# Altium schematic symbol library Memory_Flash.SchLib: 41 symbols
Pins are listed as number, name and electrical type; pins without a type are passive.

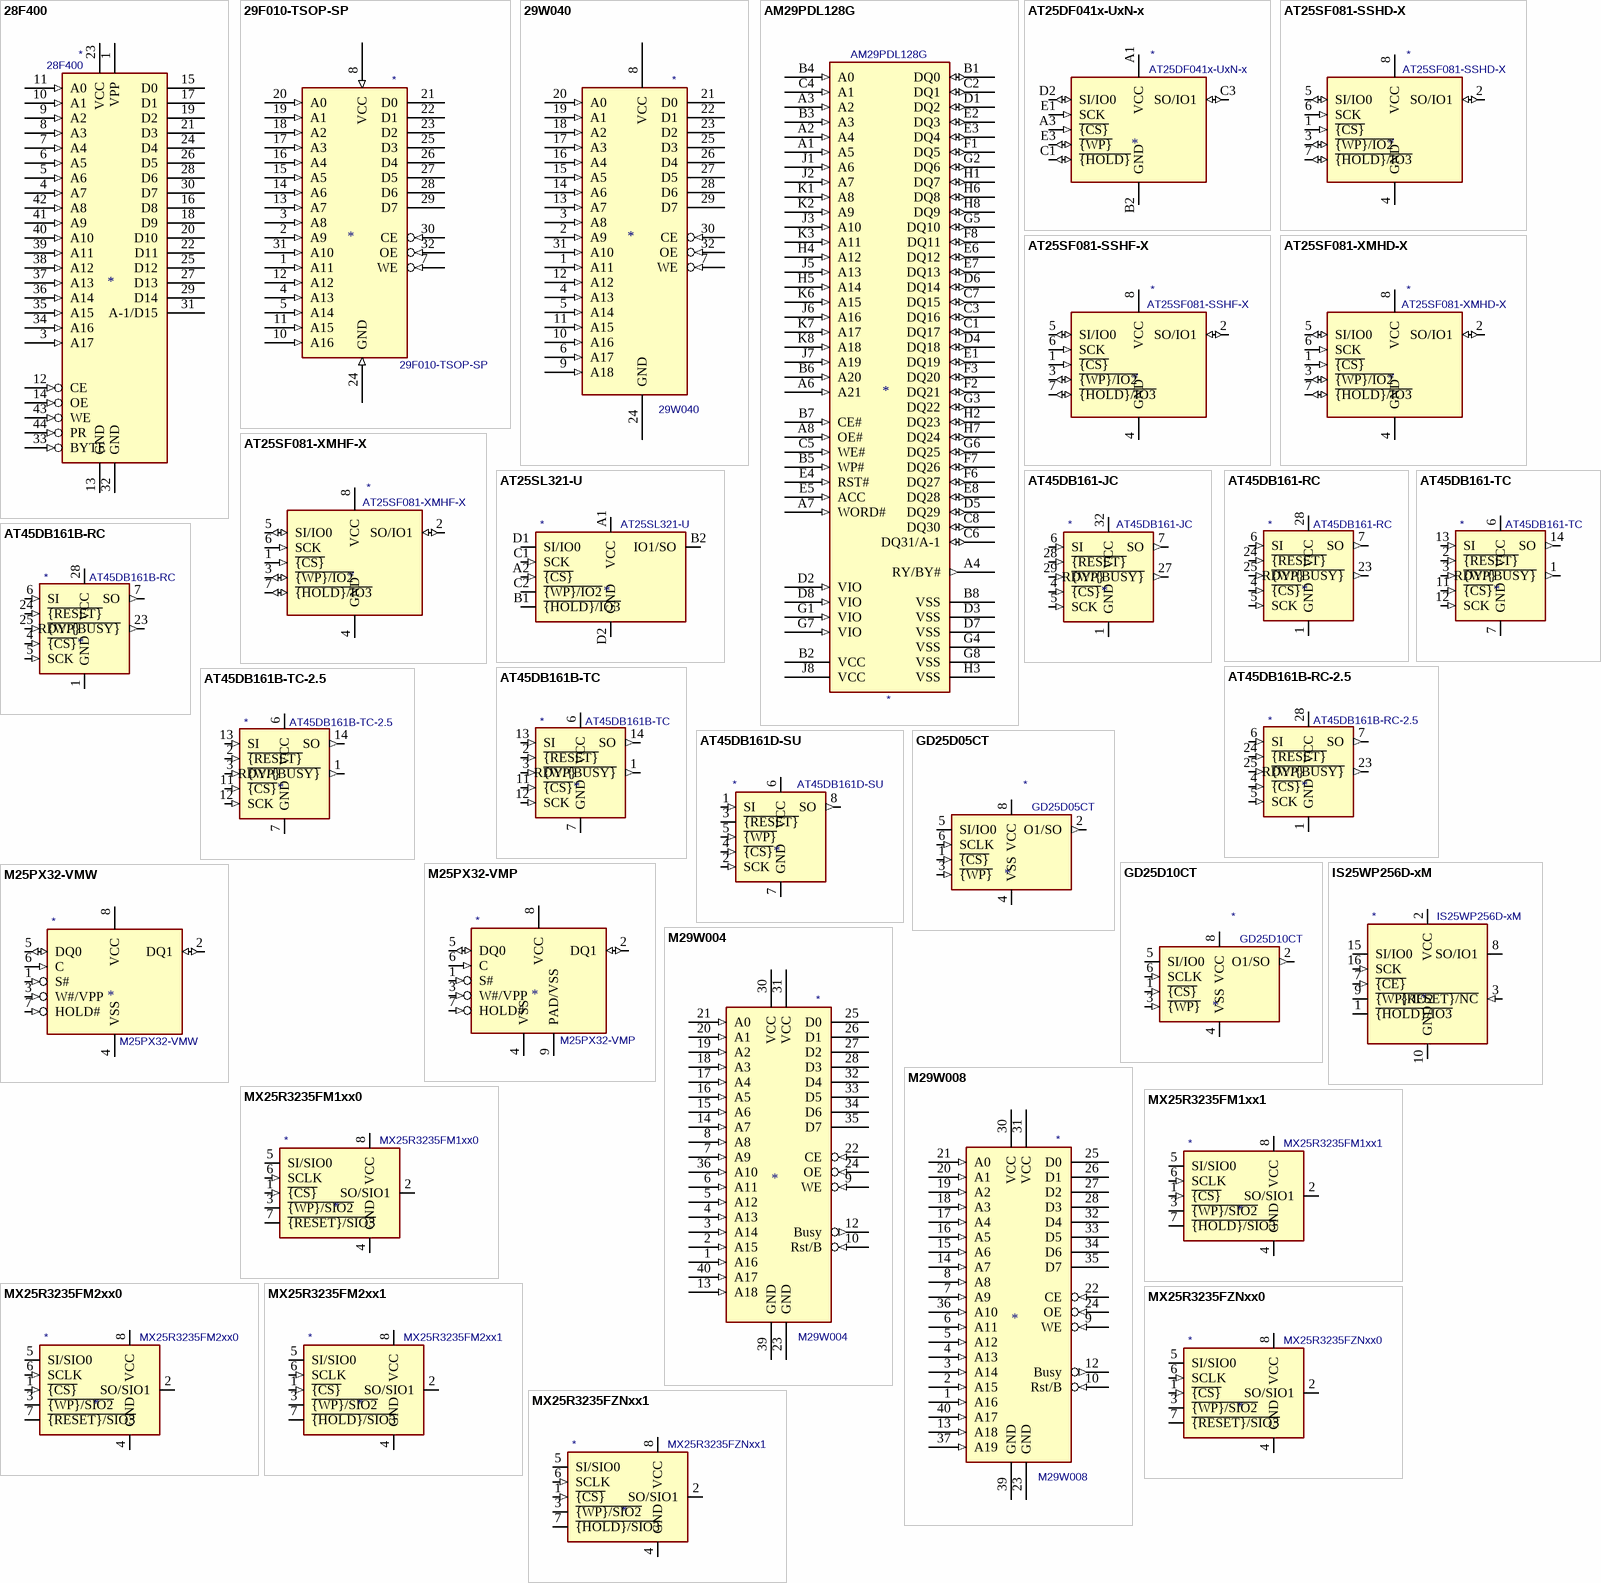
[diagram p0: symbols 28F400 to MX25R3235FZNxx1]

## 28F400
designator *  value 28F400
ki_keywords: EEPROM FLASH 4MO; ki_description: PA28F400BX-T/B Flash EEProm 4-MBIT (256Kx16bits, 512Kx8bits) 5V, 12V Prog; ki_fp_filters: PSOP*; Footprint: PSOP-44; Supplier: http://download.intel.com/design/archives/flash/docs/29045101.pdf
footprint PSOP-44
pins: 1 VPP (power), 2 DU (in) hidden, 3 A17 (in), 4 A7 (in), 5 A6 (in), 6 A5 (in), 7 A4 (in), 8 A3 (in), 9 A2 (in), 10 A1 (in), 11 A0 (in), 12 CE (in), 13 GND (power), 14 OE (in), 15 D0 (hiz), 16 D8 (hiz), 17 D1 (hiz), 18 D9 (hiz), 19 D2 (hiz), 20 D10 (hiz), 21 D3 (hiz), 22 D11 (hiz), 23 VCC (power), 24 D4 (hiz), 25 D12 (hiz), 26 D5 (hiz), 27 D13 (hiz), 28 D6 (hiz), 29 D14 (hiz), 30 D7 (hiz), 31 A-1/D15 (hiz), 32 GND (power), 33 BYTE (in), 34 A16 (in), 35 A15 (in), 36 A14 (in), 37 A13 (in), 38 A12 (in), 39 A11 (in), 40 A10 (in), 41 A9 (in), 42 A8 (in), 43 WE (in), 44 PR (in)

## 29F010-TSOP-SP
designator *  value 29F010-TSOP-SP
ki_keywords: EEPROM FLASH 128KO; ki_description: Flash EEProm 128Ko (TSOP 32 pack.) 5V prog
pins: 1 A11 (in), 2 A9 (in), 3 A8 (in), 4 A13 (in), 5 A14 (in), 7 WE (in), 8 VCC (in), 10 A16 (in), 11 A15 (in), 12 A12 (in), 13 A7 (in), 14 A6 (in), 15 A5 (in), 16 A4 (in), 17 A3 (in), 18 A2 (in), 19 A1 (in), 20 A0 (in), 21 D0 (hiz), 22 D1 (hiz), 23 D2 (hiz), 24 GND (in), 25 D3 (hiz), 26 D4 (hiz), 27 D5 (hiz), 28 D6 (hiz), 29 D7 (hiz), 30 CE (in), 31 A10 (in), 32 OE (in)

## 29W040
designator *  value 29W040
ki_keywords: EEPROM FLASH 512KO; ki_description: Flash EEProm 512PP (TSOP 32) 3,3V
pins: 1 A11 (in), 2 A9 (in), 3 A8 (in), 4 A13 (in), 5 A14 (in), 6 A17 (in), 7 WE (in), 8 VCC (power), 9 A18 (in), 10 A16 (in), 11 A15 (in), 12 A12 (in), 13 A7 (in), 14 A6 (in), 15 A5 (in), 16 A4 (in), 17 A3 (in), 18 A2 (in), 19 A1 (in), 20 A0 (in), 21 D0 (hiz), 22 D1 (hiz), 23 D2 (hiz), 24 GND (power), 25 D3 (hiz), 26 D4 (hiz), 27 D5 (hiz), 28 D6 (hiz), 29 D7 (hiz), 30 CE (in), 31 A10 (in), 32 OE (in)

## AM29PDL128G
designator *  value AM29PDL128G
ki_description: 128 Megabit (8 M x 16-Bit/4 M x 32-Bit), Simultaneous Operation Flash Memory with VersatileIO™ Control; ki_fp_filters: BGA80_1mm_15X10
pins: A1 A5 (in), A2 A4 (in), A3 A2 (in), A4 RY/BY# (out), A6 A21 (in), A7 WORD# (in), A8 OE# (in), B1 DQ0 (io), B2 VCC (power), B3 A3 (in), B4 A0 (in), B5 WP# (in), B6 A20 (in), B7 CE# (in), B8 VSS (power), C1 DQ17 (io), C2 DQ1 (io), C3 DQ16 (io), C4 A1 (in), C5 WE# (in), C6 DQ31/A-1 (io), C7 DQ15 (io), C8 DQ30 (io), D1 DQ2 (io), D2 VIO (in), D3 VSS (power), D4 DQ18 (io), D5 DQ29 (io), D6 DQ14 (io), D7 VSS (power), D8 VIO (in), E1 DQ19 (io), E2 DQ3 (io), E3 DQ4 (io), E4 RST# (in), E5 ACC (in), E6 DQ12 (io), E7 DQ13 (io), E8 DQ28 (io), F1 DQ5 (io), F2 DQ21 (io), F3 DQ20 (io), F6 DQ27 (io), F7 DQ26 (io), F8 DQ11 (io), G1 VIO (in), G2 DQ6 (io), G3 DQ22 (io), G4 VSS, G5 DQ10 (io), G6 DQ25 (io), G7 VIO (in), G8 VSS (power), H1 DQ7 (io), H2 DQ23 (io), H3 VSS (power), H4 A12 (in), H5 A14 (in), H6 DQ8 (io), H7 DQ24 (io), H8 DQ9 (io), J1 A6 (in), J2 A7 (in), J3 A10 (in), J5 A13 (in), J6 A16 (in), J7 A19 (in), J8 VCC (power), K1 A8 (in), K2 A9 (in), K3 A11 (in), K6 A15 (in), K7 A17 (in), K8 A18 (in)

## AT25DF041x-UxN-x
designator *  value AT25DF041x-UxN-x
ki_keywords: SPI DSPI 4Mbit 1.65V; ki_description: 4-Mbit, 1.65V Minimum SPI Serial Flash Memory with Dual-I/O, WLCSP-8; ki_fp_filters: WLCSP?8*1.58x1.63*Layout3x5*P0.35x0.4mm*Ball0.25mm*; Footprint: Package_CSP:WLCSP-8_1.58x1.63x0.35mm_Layout3x5_P0.35x0.4mm_Ball0.25mm_Pad0.25mm_NSMD; Supplier: http://www.adestotech.com/wp-content/uploads/DS-AT25DF041B_040.pdf
footprint WLCSP-8_1.58x1.63x0.35mm_Layout3x5_P0.35x0.4mm_Ball0.25mm_Pad0.25mm_NSMD
pins: A1 VCC (power), A3 ~{{CS}} (in), B2 GND (power), C1 ~{{HOLD}} (io), C3 SO/IO1 (io), D2 SI/IO0 (io), E1 SCK (in), E3 ~{{WP}} (io)

## AT25SF081-SSHD-X
designator *  value AT25SF081-SSHD-X
ki_keywords: SPI DSPI QSPI 8Mbit 2.5V; ki_description: 8-Mbit, 2.5V Minimum SPI Serial Flash Memory with Dual-I/O and Quad-I/O Support, SOIC-8; ki_fp_filters: SOIC?8*3.9x4.9mm*P1.27mm*; Footprint: Package_SO:SOIC-8_3.9x4.9mm_P1.27mm; Supplier: https://www.adestotech.com/wp-content/uploads/DS-AT25SF081_045.pdf
footprint SOIC-8_3.9x4.9mm_P1.27mm
pins: 1 ~{{CS}} (in), 2 SO/IO1 (io), 3 ~{{WP}/IO2} (io), 4 GND (power), 5 SI/IO0 (io), 6 SCK (in), 7 ~{{HOLD}/IO3} (io), 8 VCC (power)

## AT25SF081-SSHF-X
designator *  value AT25SF081-SSHF-X
ki_keywords: SPI DSPI QSPI 8Mbit 2.3V; ki_description: 8-Mbit, 2.3V Minimum SPI Serial Flash Memory with Dual-I/O and Quad-I/O Support, SOIC-8; ki_fp_filters: SOIC?8*3.9x4.9mm*P1.27mm*; Footprint: Package_SO:SOIC-8_3.9x4.9mm_P1.27mm; Supplier: https://www.adestotech.com/wp-content/uploads/DS-AT25SF081_045.pdf
footprint SOIC-8_3.9x4.9mm_P1.27mm
pins: 1 ~{{CS}} (in), 2 SO/IO1 (io), 3 ~{{WP}/IO2} (io), 4 GND (power), 5 SI/IO0 (io), 6 SCK (in), 7 ~{{HOLD}/IO3} (io), 8 VCC (power)

## AT25SF081-XMHD-X
designator *  value AT25SF081-XMHD-X
ki_keywords: SPI DSPI QSPI 8Mbit 2.5V; ki_description: 8-Mbit, 2.5V Minimum SPI Serial Flash Memory with Dual-I/O and Quad-I/O Support, TSSOP-8; ki_fp_filters: TSSOP?8*4.4x3mm*P0.65mm*; Footprint: Package_SO:TSSOP-8_4.4x3mm_P0.65mm; Supplier: https://www.adestotech.com/wp-content/uploads/DS-AT25SF081_045.pdf
footprint TSSOP-8_4.4x3mm_P0.65mm
pins: 1 ~{{CS}} (in), 2 SO/IO1 (io), 3 ~{{WP}/IO2} (io), 4 GND (power), 5 SI/IO0 (io), 6 SCK (in), 7 ~{{HOLD}/IO3} (io), 8 VCC (power)

## AT25SF081-XMHF-X
designator *  value AT25SF081-XMHF-X
ki_keywords: SPI DSPI QSPI 8Mbit 2.3V; ki_description: 8-Mbit, 2.3V Minimum SPI Serial Flash Memory with Dual-I/O and Quad-I/O Support, TSSOP-8; ki_fp_filters: TSSOP?8*4.4x3mm*P0.65mm*; Footprint: Package_SO:TSSOP-8_4.4x3mm_P0.65mm; Supplier: https://www.adestotech.com/wp-content/uploads/DS-AT25SF081_045.pdf
footprint TSSOP-8_4.4x3mm_P0.65mm
pins: 1 ~{{CS}} (in), 2 SO/IO1 (io), 3 ~{{WP}/IO2} (io), 4 GND (power), 5 SI/IO0 (io), 6 SCK (in), 7 ~{{HOLD}/IO3} (io), 8 VCC (power)

## AT25SL321-U
designator *  value AT25SL321-U
ki_keywords: SPI DSPI QSPI 32Mbit 1.7V; ki_description: 32-Mbit, 1.7V 2.5V Minimum SPI Serial Flash Memory with Dual-I/O and Quad-I/O Support, WLCSP-8; ki_fp_filters: WLCSP*1.551x2.284mm*P0.5mm*; Footprint: Package_CSP:WLCSP-8_1.551x2.284mm_P0.5mm; Supplier: https://www.adestotech.com/wp-content/uploads/AT25SL321_112.pdf
footprint WLCSP-8_1.551x2.284mm_P0.5mm
pins: A1 VCC (power), A2 ~{{CS}} (in), B1 ~{{HOLD}/IO3} (io), B2 IO1/SO (io), C1 SCK (in), C2 ~{{WP}/IO2} (io), D1 SI/IO0 (io), D2 GND (power)

## AT45DB161-JC
designator *  value AT45DB161-JC
ki_keywords: Atmel DataFlash; ki_description: 16Mb Serial DataFlash, 2.7V Vcc, PLCC-32; ki_fp_filters: PLCC?32*11.4x14.0mm*P1.27mm*; Footprint: Package_LCC:PLCC-32_11.4x14.0mm_P1.27mm; Supplier: http://ww1.microchip.com/downloads/en/devicedoc/doc0807.pdf
footprint PLCC-32_11.4x14.0mm_P1.27mm
pins: 1 GND (power), 4 ~{{CS}} (in), 5 SCK (in), 6 SI (in), 7 SO (out), 27 RDY/~{{BUSY}} (out), 28 ~{{RESET}} (in), 29 ~{{WP}} (in), 32 VCC (power)

## AT45DB161-RC
designator *  value AT45DB161-RC
ki_keywords: Atmel DataFlash; ki_description: 16Mb Serial DataFlash, 2.7V Vcc, SOIC-28; ki_fp_filters: SOIC?28*8.7x18.25mm*P1.27mm*; Footprint: Package_SO:SOIC-28W_8.7x18.25mm_P1.27mm; Supplier: http://ww1.microchip.com/downloads/en/devicedoc/doc0807.pdf
footprint SOIC-28W_8.7x18.25mm_P1.27mm
pins: 1 GND (power), 4 ~{{CS}} (in), 5 SCK (in), 6 SI (in), 7 SO (out), 23 RDY/~{{BUSY}} (out), 24 ~{{RESET}} (in), 25 ~{{WP}} (in), 28 VCC (power)

## AT45DB161-TC
designator *  value AT45DB161-TC
ki_keywords: Atmel DataFlash; ki_description: 16Mb Serial DataFlash, 2.7V Vcc, TSOP-28; ki_fp_filters: TSOP?28*11.8x8mm*P0.55mm*; Footprint: Package_SO:TSOP-28_11.8x8mm_P0.55mm; Supplier: http://ww1.microchip.com/downloads/en/devicedoc/doc0807.pdf
footprint TSOP-28_11.8x8mm_P0.55mm
pins: 1 RDY/~{{BUSY}} (out), 2 ~{{RESET}} (in), 3 ~{{WP}} (in), 6 VCC (power), 7 GND (power), 11 ~{{CS}} (in), 12 SCK (in), 13 SI (in), 14 SO (out)

## AT45DB161B-RC
designator *  value AT45DB161B-RC
ki_keywords: Atmel DataFlash; ki_description: 16Mb Serial DataFlash, 2.7V Vcc, SOIC-28; ki_fp_filters: SOIC?28*8.7x18.25mm*P1.27mm*; Footprint: Package_SO:SOIC-28W_8.7x18.25mm_P1.27mm; Supplier: http://ww1.microchip.com/downloads/en/devicedoc/doc2224.pdf
footprint SOIC-28W_8.7x18.25mm_P1.27mm
pins: 1 GND (power), 4 ~{{CS}} (in), 5 SCK (in), 6 SI (in), 7 SO (out), 23 RDY/~{{BUSY}} (out), 24 ~{{RESET}} (in), 25 ~{{WP}} (in), 28 VCC (power)

## AT45DB161B-RC-2.5
designator *  value AT45DB161B-RC-2.5
ki_keywords: Atmel DataFlash; ki_description: 16Mb Serial DataFlash, 2.5V Vcc, SOIC-28; ki_fp_filters: SOIC?28*8.7x18.25mm*P1.27mm*; Footprint: Package_SO:SOIC-28W_8.7x18.25mm_P1.27mm; Supplier: http://ww1.microchip.com/downloads/en/devicedoc/doc2224.pdf
footprint SOIC-28W_8.7x18.25mm_P1.27mm
pins: 1 GND (power), 4 ~{{CS}} (in), 5 SCK (in), 6 SI (in), 7 SO (out), 23 RDY/~{{BUSY}} (out), 24 ~{{RESET}} (in), 25 ~{{WP}} (in), 28 VCC (power)

## AT45DB161B-TC
designator *  value AT45DB161B-TC
ki_keywords: Atmel DataFlash; ki_description: 16Mb Serial DataFlash, 2.7V Vcc, TSOP-28; ki_fp_filters: TSOP?28*11.8x8mm*P0.55mm*; Footprint: Package_SO:TSOP-28_11.8x8mm_P0.55mm; Supplier: http://ww1.microchip.com/downloads/en/devicedoc/doc2224.pdf
footprint TSOP-28_11.8x8mm_P0.55mm
pins: 1 RDY/~{{BUSY}} (out), 2 ~{{RESET}} (in), 3 ~{{WP}} (in), 6 VCC (power), 7 GND (power), 11 ~{{CS}} (in), 12 SCK (in), 13 SI (in), 14 SO (out)

## AT45DB161B-TC-2.5
designator *  value AT45DB161B-TC-2.5
ki_keywords: Atmel DataFlash; ki_description: 16Mb Serial DataFlash, 2.5V Vcc, TSOP-28; ki_fp_filters: TSOP?28*11.8x8mm*P0.55mm*; Footprint: Package_SO:TSOP-28_11.8x8mm_P0.55mm; Supplier: http://ww1.microchip.com/downloads/en/devicedoc/doc2224.pdf
footprint TSOP-28_11.8x8mm_P0.55mm
pins: 1 RDY/~{{BUSY}} (out), 2 ~{{RESET}} (in), 3 ~{{WP}} (in), 6 VCC (power), 7 GND (power), 11 ~{{CS}} (in), 12 SCK (in), 13 SI (in), 14 SO (out)

## AT45DB161D-SU
designator *  value AT45DB161D-SU
ki_keywords: Adesto Flash Memory DataFlash; ki_description: 16Mb Serial DataFlash, 2.5V Vcc, SOIC-8; ki_fp_filters: SOIC*P1.27mm*; Footprint: Package_SO:SOIC-8_5.275x5.275mm_P1.27mm; Supplier: https://www.adestotech.com/wp-content/uploads/doc3500.pdf
footprint SOIC-8_5.275x5.275mm_P1.27mm
pins: 1 SI (in), 2 SCK (in), 3 ~{{RESET}} (io), 4 ~{{CS}} (in), 5 ~{{WP}} (in), 6 VCC (power), 7 GND (power), 8 SO (out)

## GD25D05CT
designator *  value GD25D05CT
ki_keywords: SPI DSPI QSPI 512Kbit 3.0V; ki_description: 512kbit, 3.0V Standard and Dual Serial Flash, SOP-8; ki_fp_filters: SOP*3.9x4.9mm*P1.27mm*; Footprint: Package_SO:SOP-8_3.9x4.9mm_P1.27mm; Supplier: http://www.elm-tech.com/en/products/spi-flash-memory/gd25d10/gd25d10.pdf
footprint SOP-8_3.9x4.9mm_P1.27mm
pins: 1 ~{{CS}} (in), 2 O1/SO (out), 3 ~{{WP}} (in), 4 VSS (power), 5 SI/IO0 (io), 6 SCLK (in), 7 NC (in) hidden, 8 VCC (power)

## GD25D10CT
designator *  value GD25D10CT
ki_keywords: SPI DSPI QSPI 1Mbit 3.0V; ki_description: 1Mbit, 3.0V Standard and Dual Serial Flash, SOP-8; ki_fp_filters: SOP*3.9x4.9mm*P1.27mm*; Footprint: Package_SO:SOP-8_3.9x4.9mm_P1.27mm; Supplier: http://www.elm-tech.com/en/products/spi-flash-memory/gd25d10/gd25d10.pdf
footprint SOP-8_3.9x4.9mm_P1.27mm
pins: 1 ~{{CS}} (in), 2 O1/SO (out), 3 ~{{WP}} (in), 4 VSS (power), 5 SI/IO0 (io), 6 SCLK (in), 7 NC (in) hidden, 8 VCC (power)

## IS25WP256D-xM
designator *  value IS25WP256D-xM
ki_keywords: SPI DSPI QSPI NOR 256Mbit 1.8V; ki_description: 256-Mbit, 1.8V SPI Serial Flash Memory with Dual-I/O and Quad-I/O Support, SOIC-16; ki_fp_filters: SOIC*7.5x10.3mm*P1.27mm*; Footprint: Package_SO:SOIC-16W_7.5x10.3mm_P1.27mm; Supplier: http://www.issi.com/WW/pdf/IS25LP(WP)256D.pdf
footprint SOIC-16W_7.5x10.3mm_P1.27mm
pins: 1 ~{{HOLD}/IO3} (io), 2 VCC (power), 3 ~{{RESET}/NC} (in), 4 NC (in) hidden, 5 NC (in) hidden, 6 NC (in) hidden, 7 ~{{CE}} (in), 8 SO/IO1 (io), 9 ~{{WP}/IO2} (io), 10 GND (power), 11 NC (in) hidden, 12 NC (in) hidden, 13 NC (in) hidden, 14 NC (in) hidden, 15 SI/IO0 (io), 16 SCK (in)

## M25PX32-VMP
designator *  value M25PX32-VMP
ki_keywords: NOR Serial Flash Embedded Memory; ki_description: 32Mb, Dual I/O, 4KB Subsector Erase, 3V Serial Flash Memory with 75 MHz SPI Bus Interface, DFN-8; ki_fp_filters: DFN*6x5mm*P1.27mm*; Footprint: Package_DFN_QFN:DFN-S-8-1EP_6x5mm_P1.27mm; Supplier: https://www.micron.com/~/media/documents/products/data-sheet/nor-flash/serial-nor/m25px/m25px32.pdf
footprint DFN-S-8-1EP_6x5mm_P1.27mm
pins: 1 S# (in), 2 DQ1 (io), 3 W#/VPP (in), 4 VSS (power), 5 DQ0 (io), 6 C (in), 7 HOLD# (in), 8 VCC (power), 9 PAD/VSS (power)

## M25PX32-VMW
designator *  value M25PX32-VMW
ki_keywords: NOR Serial Flash Embedded Memory; ki_description: 32Mb, Dual I/O, 4KB Subsector Erase, 3V Serial Flash Memory with 75 MHz SPI Bus Interface, SOIC-8W; ki_fp_filters: SOIC*5.3x5.3mm*P1.27mm*; Footprint: Package_SO:SOIC-8W_5.3x5.3mm_P1.27mm; Supplier: https://www.micron.com/~/media/documents/products/data-sheet/nor-flash/serial-nor/m25px/m25px32.pdf
footprint SOIC-8W_5.3x5.3mm_P1.27mm
pins: 1 S# (in), 2 DQ1 (io), 3 W#/VPP (in), 4 VSS (power), 5 DQ0 (io), 6 C (in), 7 HOLD# (in), 8 VCC (power)

## M29W004
designator *  value M29W004
ki_keywords: EEPROM FLASH 512KO; ki_description: Flash EEProm 512Ko (TSOP 40 pack.) 3,3V
pins: 1 A16 (in), 2 A15 (in), 3 A14 (in), 4 A13 (in), 5 A12 (in), 6 A11 (in), 7 A9 (in), 8 A8 (in), 9 WE (in), 10 Rst/B (in), 12 Busy (out), 13 A18 (in), 14 A7 (in), 15 A6 (in), 16 A5 (in), 17 A4 (in), 18 A3 (in), 19 A2 (in), 20 A1 (in), 21 A0 (in), 22 CE (in), 23 GND (power), 24 OE (in), 25 D0 (hiz), 26 D1 (hiz), 27 D2 (hiz), 28 D3 (hiz), 30 VCC (power), 31 VCC (power), 32 D4 (hiz), 33 D5 (hiz), 34 D6 (hiz), 35 D7 (hiz), 36 A10 (in), 39 GND (power), 40 A17 (in)

## M29W008
designator *  value M29W008
ki_keywords: EEPROM FLASH 1MO; ki_description: Flash EEProm 1MO (TSOP 40 pack.) 3,3V
pins: 1 A16 (in), 2 A15 (in), 3 A14 (in), 4 A13 (in), 5 A12 (in), 6 A11 (in), 7 A9 (in), 8 A8 (in), 9 WE (in), 10 Rst/B (in), 12 Busy (out), 13 A18 (in), 14 A7 (in), 15 A6 (in), 16 A5 (in), 17 A4 (in), 18 A3 (in), 19 A2 (in), 20 A1 (in), 21 A0 (in), 22 CE (in), 23 GND (power), 24 OE (in), 25 D0 (hiz), 26 D1 (hiz), 27 D2 (hiz), 28 D3 (hiz), 30 VCC (power), 31 VCC (power), 32 D4 (hiz), 33 D5 (hiz), 34 D6 (hiz), 35 D7 (hiz), 36 A10 (in), 37 A19 (in), 39 GND (power), 40 A17 (in)

## MX25R3235FM1xx0
designator *  value MX25R3235FM1xx0
ki_keywords: SPI 32Mbit 1.65V-3.6V; ki_description: 32-Mbit, Wide Range Voltage SPI Serial Flash Memory, SOP-8; ki_fp_filters: SOP*3.9x4.9mm*P1.27mm*; Footprint: Package_SO:SOP-8_3.9x4.9mm_P1.27mm; Supplier: http://www.macronix.com/Lists/Datasheet/Attachments/7534/MX25R3235F,%20Wide%20Range,%2032Mb,%20v1.6.pdf
footprint SOP-8_3.9x4.9mm_P1.27mm
pins: 1 ~{{CS}} (in), 2 SO/SIO1 (io), 3 ~{{WP}/SIO2} (io), 4 GND (power), 5 SI/SIO0 (io), 6 SCLK (in), 7 ~{{RESET}/SIO3} (io), 8 VCC (power)

## MX25R3235FM1xx1
designator *  value MX25R3235FM1xx1
ki_keywords: SPI 32Mbit 1.65V-3.6V; ki_description: 32-Mbit, Wide Range Voltage SPI Serial Flash Memory, SOP-8; ki_fp_filters: SOP*3.9x4.9mm*P1.27mm*; Footprint: Package_SO:SOP-8_3.9x4.9mm_P1.27mm; Supplier: http://www.macronix.com/Lists/Datasheet/Attachments/7534/MX25R3235F,%20Wide%20Range,%2032Mb,%20v1.6.pdf
footprint SOP-8_3.9x4.9mm_P1.27mm
pins: 1 ~{{CS}} (in), 2 SO/SIO1 (io), 3 ~{{WP}/SIO2} (io), 4 GND (power), 5 SI/SIO0 (io), 6 SCLK (in), 7 ~{{HOLD}/SIO3} (io), 8 VCC (power)

## MX25R3235FM2xx0
designator *  value MX25R3235FM2xx0
ki_keywords: SPI 32Mbit 1.65V-3.6V; ki_description: 32-Mbit, Wide Range Voltage SPI Serial Flash Memory, SOP-8; ki_fp_filters: SOP*5.28x5.23mm*P1.27mm*; Footprint: Package_SO:SOP-8_5.28x5.23mm_P1.27mm; Supplier: http://www.macronix.com/Lists/Datasheet/Attachments/7534/MX25R3235F,%20Wide%20Range,%2032Mb,%20v1.6.pdf
footprint SOP-8_5.28x5.23mm_P1.27mm
pins: 1 ~{{CS}} (in), 2 SO/SIO1 (io), 3 ~{{WP}/SIO2} (io), 4 GND (power), 5 SI/SIO0 (io), 6 SCLK (in), 7 ~{{RESET}/SIO3} (io), 8 VCC (power)

## MX25R3235FM2xx1
designator *  value MX25R3235FM2xx1
ki_keywords: SPI 32Mbit 1.65V-3.6V; ki_description: 32-Mbit, Wide Range Voltage SPI Serial Flash Memory, SOP-8; ki_fp_filters: SOP*5.28x5.23mm*P1.27mm*; Footprint: Package_SO:SOP-8_5.28x5.23mm_P1.27mm; Supplier: http://www.macronix.com/Lists/Datasheet/Attachments/7534/MX25R3235F,%20Wide%20Range,%2032Mb,%20v1.6.pdf
footprint SOP-8_5.28x5.23mm_P1.27mm
pins: 1 ~{{CS}} (in), 2 SO/SIO1 (io), 3 ~{{WP}/SIO2} (io), 4 GND (power), 5 SI/SIO0 (io), 6 SCLK (in), 7 ~{{HOLD}/SIO3} (io), 8 VCC (power)

## MX25R3235FZNxx0
designator *  value MX25R3235FZNxx0
ki_keywords: SPI 32Mbit 1.65V-3.6V; ki_description: 32-Mbit, Wide Range Voltage SPI Serial Flash Memory, WSON-8; ki_fp_filters: WSON*1EP*6x5mm*P1.27mm*; Footprint: Package_SON:WSON-8-1EP_6x5mm_P1.27mm_EP3.4x4mm; Supplier: http://www.macronix.com/Lists/Datasheet/Attachments/7534/MX25R3235F,%20Wide%20Range,%2032Mb,%20v1.6.pdf
footprint WSON-8-1EP_6x5mm_P1.27mm_EP3.4x4mm
pins: 1 ~{{CS}} (in), 2 SO/SIO1 (io), 3 ~{{WP}/SIO2} (io), 4 GND (power), 5 SI/SIO0 (io), 6 SCLK (in), 7 ~{{RESET}/SIO3} (io), 8 VCC (power), 9 GND hidden

## MX25R3235FZNxx1
designator *  value MX25R3235FZNxx1
ki_keywords: SPI 32Mbit 1.65V-3.6V; ki_description: 32-Mbit, Wide Range Voltage SPI Serial Flash Memory, WSON-8; ki_fp_filters: WSON*1EP*6x5mm*P1.27mm*; Footprint: Package_SON:WSON-8-1EP_6x5mm_P1.27mm_EP3.4x4mm; Supplier: http://www.macronix.com/Lists/Datasheet/Attachments/7534/MX25R3235F,%20Wide%20Range,%2032Mb,%20v1.6.pdf
footprint WSON-8-1EP_6x5mm_P1.27mm_EP3.4x4mm
pins: 1 ~{{CS}} (in), 2 SO/SIO1 (io), 3 ~{{WP}/SIO2} (io), 4 GND (power), 5 SI/SIO0 (io), 6 SCLK (in), 7 ~{{HOLD}/SIO3} (io), 8 VCC (power), 9 GND hidden

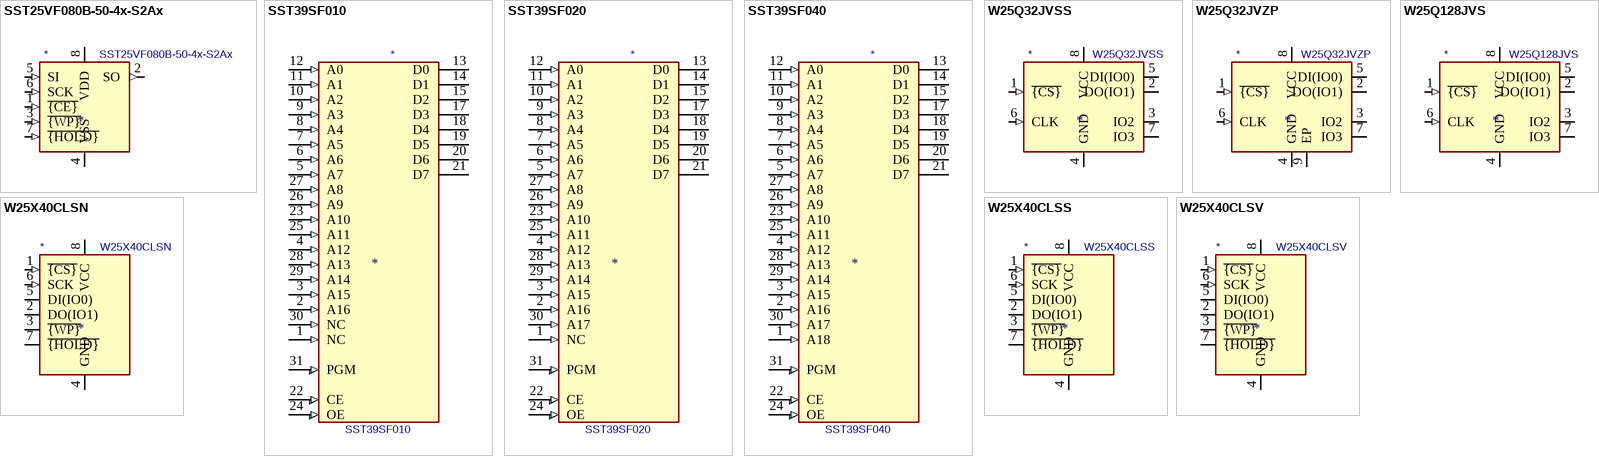
[diagram p1: symbols SST25VF080B-50-4x-S2Ax to W25X40CLSV]

## SST25VF080B-50-4x-S2Ax
designator *  value SST25VF080B-50-4x-S2Ax
ki_keywords: flash memory spi; ki_description: 8-Mbit, 2.7 to 3.6V, SPI Flash Memory, SOIC-8; ki_fp_filters: SOIC*5.275x5.275mm*P1.27mm*; Footprint: Package_SO:SOIC-8_5.275x5.275mm_P1.27mm; Supplier: http://ww1.microchip.com/downloads/en/DeviceDoc/20005045C.pdf
footprint SOIC-8_5.275x5.275mm_P1.27mm
pins: 1 ~{{CE}} (in), 2 SO (out), 3 ~{{WP}} (in), 4 VSS (power), 5 SI (in), 6 SCK (in), 7 ~{{HOLD}} (in), 8 VDD (power)

## SST39SF010
designator *  value SST39SF010
ki_keywords: 128k flash rom; ki_description: Silicon Storage Technology (SSF) 128k x 8 Flash ROM; Supplier: http://ww1.microchip.com/downloads/en/DeviceDoc/25022B.pdf
pins: 1 NC (in), 2 A16 (in), 3 A15 (in), 4 A12 (in), 5 A7 (in), 6 A6 (in), 7 A5 (in), 8 A4 (in), 9 A3 (in), 10 A2 (in), 11 A1 (in), 12 A0 (in), 13 D0 (hiz), 14 D1 (hiz), 15 D2 (hiz), 16 GND (power) hidden, 17 D3 (hiz), 18 D4 (hiz), 19 D5 (hiz), 20 D6 (hiz), 21 D7 (hiz), 22 CE (in), 23 A10 (in), 24 OE (in), 25 A11 (in), 26 A9 (in), 27 A8 (in), 28 A13 (in), 29 A14 (in), 30 NC (in), 31 PGM (in), 32 VCC (power) hidden

## SST39SF020
designator *  value SST39SF020
ki_keywords: 256k flash rom; ki_description: Silicon Storage Technology (SSF) 256k x 8 Flash ROM; Supplier: http://ww1.microchip.com/downloads/en/DeviceDoc/25022B.pdf
pins: 1 NC (in), 2 A16 (in), 3 A15 (in), 4 A12 (in), 5 A7 (in), 6 A6 (in), 7 A5 (in), 8 A4 (in), 9 A3 (in), 10 A2 (in), 11 A1 (in), 12 A0 (in), 13 D0 (hiz), 14 D1 (hiz), 15 D2 (hiz), 16 GND (power) hidden, 17 D3 (hiz), 18 D4 (hiz), 19 D5 (hiz), 20 D6 (hiz), 21 D7 (hiz), 22 CE (in), 23 A10 (in), 24 OE (in), 25 A11 (in), 26 A9 (in), 27 A8 (in), 28 A13 (in), 29 A14 (in), 30 A17 (in), 31 PGM (in), 32 VCC (power) hidden

## SST39SF040
designator *  value SST39SF040
ki_keywords: 512k flash rom; ki_description: Silicon Storage Technology (SSF) 512k x 8 Flash ROM; Supplier: http://ww1.microchip.com/downloads/en/DeviceDoc/25022B.pdf
pins: 1 A18 (in), 2 A16 (in), 3 A15 (in), 4 A12 (in), 5 A7 (in), 6 A6 (in), 7 A5 (in), 8 A4 (in), 9 A3 (in), 10 A2 (in), 11 A1 (in), 12 A0 (in), 13 D0 (hiz), 14 D1 (hiz), 15 D2 (hiz), 16 GND (power) hidden, 17 D3 (hiz), 18 D4 (hiz), 19 D5 (hiz), 20 D6 (hiz), 21 D7 (hiz), 22 CE (in), 23 A10 (in), 24 OE (in), 25 A11 (in), 26 A9 (in), 27 A8 (in), 28 A13 (in), 29 A14 (in), 30 A17 (in), 31 PGM (in), 32 VCC (power) hidden

## W25Q32JVSS
designator *  value W25Q32JVSS
ki_keywords: flash memory SPI; ki_description: 32Mb Serial Flash Memory, Standard/Dual/Quad SPI, SOIC-8; ki_fp_filters: SOIC*5.23x5.23mm*P1.27mm*; Footprint: Package_SO:SOIC-8_5.23x5.23mm_P1.27mm; Supplier: http://www.winbond.com/resource-files/w25q32jv%20revg%2003272018%20plus.pdf
footprint SOIC-8_5.23x5.23mm_P1.27mm
pins: 1 ~{{CS}} (in), 2 DO(IO1) (io), 3 IO2 (io), 4 GND (power), 5 DI(IO0) (io), 6 CLK (in), 7 IO3 (io), 8 VCC (power)

## W25Q32JVZP
designator *  value W25Q32JVZP
ki_keywords: flash memory SPI; ki_description: 32Mb Serial Flash Memory, Standard/Dual/Quad SPI, DFN-8; ki_fp_filters: WSON*1EP*6x5mm*P1.27mm*; Footprint: Package_SON:WSON-8-1EP_6x5mm_P1.27mm_EP3.4x4.3mm; Supplier: http://www.winbond.com/resource-files/w25q32jv%20revg%2003272018%20plus.pdf
footprint WSON-8-1EP_6x5mm_P1.27mm_EP3.4x4.3mm
pins: 1 ~{{CS}} (in), 2 DO(IO1) (io), 3 IO2 (io), 4 GND (power), 5 DI(IO0) (io), 6 CLK (in), 7 IO3 (io), 8 VCC (power), 9 EP

## W25Q128JVS
designator *  value W25Q128JVS
ki_keywords: flash memory SPI QPI DTR; ki_description: 128Mb Serial Flash Memory, Standard/Dual/Quad SPI, SOIC-8; ki_fp_filters: SOIC*5.23x5.23mm*P1.27mm*; Footprint: Package_SO:SOIC-8_5.23x5.23mm_P1.27mm; Supplier: http://www.winbond.com/resource-files/w25q128jv_dtr%20revc%2003272018%20plus.pdf
footprint SOIC-8_5.23x5.23mm_P1.27mm
pins: 1 ~{{CS}} (in), 2 DO(IO1) (io), 3 IO2 (io), 4 GND (power), 5 DI(IO0) (io), 6 CLK (in), 7 IO3 (io), 8 VCC (power)

## W25X40CLSN
designator *  value W25X40CLSN
ki_keywords: Memory Flash SPI; ki_description: 4Mbit Serial Flash memory, dual I/O SPI, SOIC-8; ki_fp_filters: SOIC*3.9x4.9mm*P1.27mm*; Footprint: Package_SO:SOIC-8_3.9x4.9mm_P1.27mm; Supplier: https://www.winbond.com/resource-files/W25X40CL_G%2020210505.pdf
footprint SOIC-8_3.9x4.9mm_P1.27mm
pins: 1 ~{{CS}} (in), 2 DO(IO1) (io), 3 ~{{WP}} (io), 4 GND (power), 5 DI(IO0) (io), 6 SCK (in), 7 ~{{HOLD}} (io), 8 VCC (power)

## W25X40CLSS
designator *  value W25X40CLSS
ki_keywords: Memory Flash SPI; ki_description: 4Mbit Serial Flash memory, dual I/O SPI, SOIC-8 208mil; ki_fp_filters: SOIC*5.275x5.275mm*P1.27mm*; Footprint: Package_SO:SOIC-8_5.275x5.275mm_P1.27mm; Supplier: https://www.winbond.com/resource-files/W25X40CL_G%2020210505.pdf
footprint SOIC-8_5.275x5.275mm_P1.27mm
pins: 1 ~{{CS}} (in), 2 DO(IO1) (io), 3 ~{{WP}} (io), 4 GND (power), 5 DI(IO0) (io), 6 SCK (in), 7 ~{{HOLD}} (io), 8 VCC (power)

## W25X40CLSV
designator *  value W25X40CLSV
ki_keywords: Memory Flash SPI; ki_description: 4Mbit Serial Flash memory, dual I/O SPI, VSOP-8; ki_fp_filters: SOP*3.9x4.9mm*P1.27mm*; Footprint: Package_SO:SOP-8_3.9x4.9mm_P1.27mm; Supplier: https://www.winbond.com/resource-files/W25X40CL_G%2020210505.pdf
footprint SOP-8_3.9x4.9mm_P1.27mm
pins: 1 ~{{CS}} (in), 2 DO(IO1) (io), 3 ~{{WP}} (io), 4 GND (power), 5 DI(IO0) (io), 6 SCK (in), 7 ~{{HOLD}} (io), 8 VCC (power)